# EAGLE library part 4677 (library 4677)
Adafruit Accessories Generic 64 Mbit Serial Pseudo SRAM - 3.3V 133 MHz Source: Datasheet <https://www.espressif.com/sites/default/files/documentation/esp-psram64_esp-psram64h_datasheet_en.pdf>
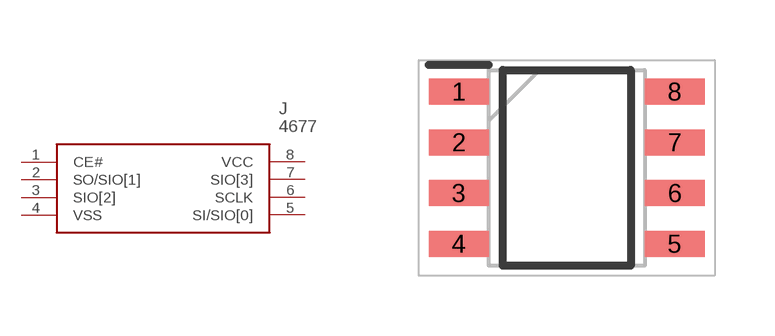
[diagram p0: symbol with the pads of SOIC127P600X175-8N; footprint SOIC127P600X175-8N]

Designator prefix J

## 4677 (Description: Adafruit Accessories Generic 64 Mbit Serial Pseudo SRAM - 3.3V 133 MHz; Height: 1.75mm; Manufacturer_Name: Adafruit; Manufacturer_Part_Number: 4677; Mouser_Part_Number: 485-4677; Mouser_Price-Stock: https://www.mouser.co.uk/ProductDetail/Adafruit/4677?qs=DPoM0jnrROUZDCYEDSsMew%3D%3D)  [SOIC127P600X175-8N]
1  CE#
2  SO/SIO[1]
3  SIO[2]
4  VSS
5  SI/SIO[0]
6  SCLK
7  SIO[3]
8  VCC

## Footprint SOIC127P600X175-8N (pad centres in mm)
4677
smd 1.5 x 0.65: 1 -2.7,1.905; 2 -2.7,0.635; 3 -2.7,-0.635; 4 -2.7,-1.905; 5 2.7,-1.905; 6 2.7,-0.635; 7 2.7,0.635; 8 2.7,1.905